# Altium footprint library libreriaPcb.PcbLib: 683 footprints (part 8 of 44)
Each footprint in its own frame and in the unit in brackets; x right, y up, seen from the top. Pads: shape width x height; smd on the part's side, far side on the other; paste and mask are expansions set on the pad; w line width, h text height; cw(c..) or ccw(c..) is an arc to the next point about the centre after c.
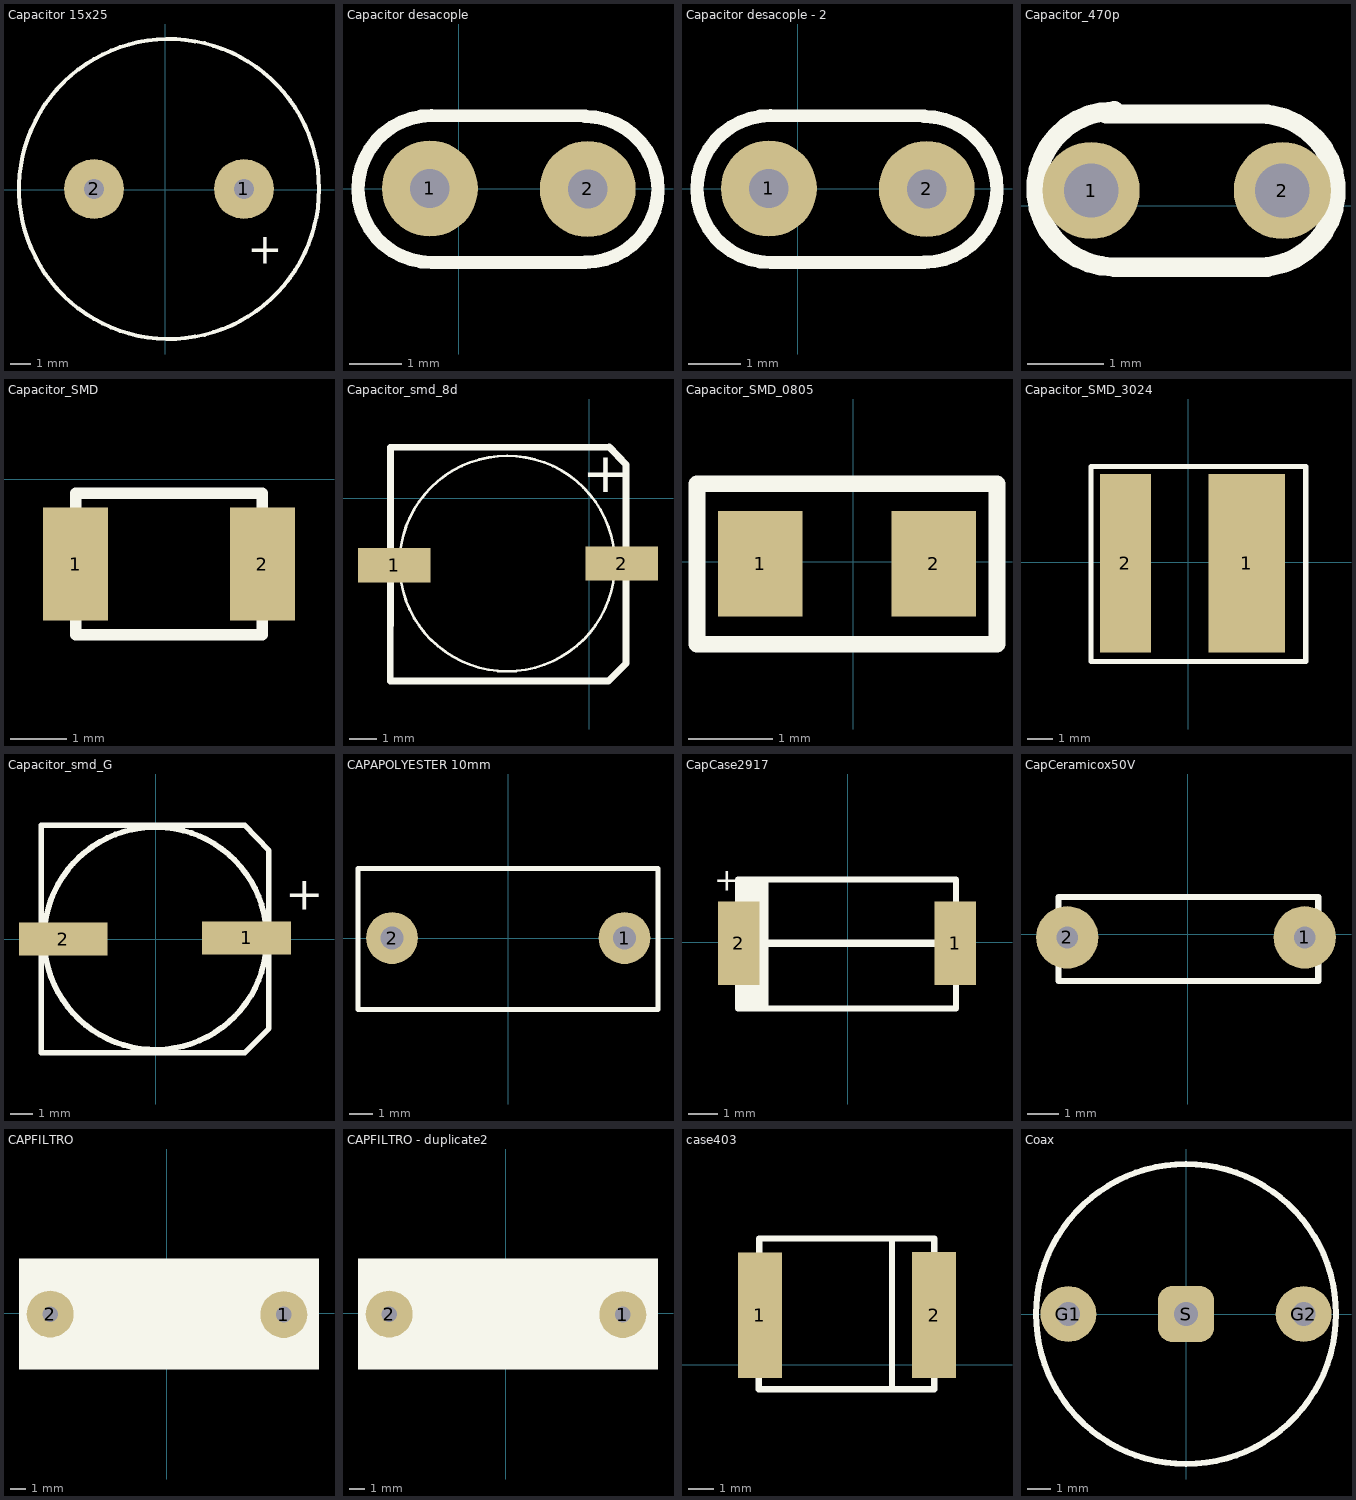
[diagram p7: the footprints below, top view; thin cyan lines are the x and y axes]

## Capacitor 15x25 [mm]
pads (2):
  round 3 hole 1: 1(3.944,0.033) 2(-3.556,0.033)
Top Overlay:
  circle w0.2: c0.194,0.033 r7.5
  text "+" at 5.874,-2.387 h1.52
3D body: height 25, standoff 0, extent -7.306,-7.452 7.635,7.518

## Capacitor desacople [mm]
pads (2):
  round 1.829 hole 0.75: 1(-0.55,0.01) 2(2.46,0)
Top Overlay:
  lines w0.254: 2.41,1.383 cw(c2.41,-0.007) 2.41,-1.397 -0.52,-1.4 cw(c-0.52,0) -0.52,1.4 2.41,1.393

## Capacitor desacople - 2 [mm]
pads (2):
  round 1.829 hole 0.75: 1(-0.55,0.01) 2(2.46,0)
Top Overlay:
  lines w0.254: 2.41,1.383 cw(c2.41,-0.007) 2.41,-1.397 -0.52,-1.4 cw(c-0.52,0) -0.52,1.4 2.41,1.393
3D body: height 5.6, standoff 0, extent -1.826,-0.71 3.774,0.79

## Capacitor_470p [mm]
pads (2):
  round 1.27 hole 0.711: 1(5.3,0.2) 2(7.8,0.2)
Top Overlay:
  lines w0.254: 5.5,1.2 7.6,1.2 ; 5.6,1.24 ccw(c5.6,0.22) 5.6,-0.8 7.6,-0.8 ; 7.5,-0.8 ccw(c7.5,0.2) 7.5,1.2

## Capacitor_SMD [mm]
pads (2):
  rect 1.15x2 smd: 1(-5.05,-1.5) 2(-1.75,-1.5)
Top Overlay:
  lines w0.2: -5.05,-2.75 -5.05,-1.5 -5.05,-0.25 -1.75,-0.25 -1.75,-2.75 -5.05,-2.75
3D body: height 1, standoff 0, extent -2.12,-2.32 -1.82,-0.72
3D body: height 1, standoff 0, extent -5.02,-2.32 -4.72,-0.72
3D body: height 1, standoff 0, extent -4.72,-2.32 -2.12,-0.72

## Capacitor_smd_8d [mm]
pads (2):
  rect 2.7x1.27 smd: 1(-7.23,-2.49) 2(1.21,-2.43)
Top Overlay:
  circle w0.1: c-3.04,-2.43 r4
  lines w0.254: -7.38,-6.79 0.72,-6.79 1.37,-6.14 1.37,1.25 0.75,1.9 -7.37,1.89 -7.37,-2.73 -7.38,-6.79
  text "+" at -0.25,0.22 h1.52
3D body: height 10, standoff 1, extent -7.039,-6.429 0.959,1.569
3D body: height 1, standoff 0, extent -7.381,-6.791 1.371,1.901

## Capacitor_SMD_0805 [mm]
pads (2):
  rect 1x1.25 smd: 1(-1.1,-0.02) 2(0.95,-0.02)
Top Overlay:
  lines w0.2: -1.85,-0.975 -1.85,0.925 1.7,0.925 1.7,-0.975 -1.85,-0.975
3D body: height 1, standoff 0, extent 0.65,-0.7 0.95,0.6
3D body: height 1, standoff 0, extent -1.1,-0.65 -0.8,0.6
3D body: height 1, standoff 0, extent -0.8,-0.65 0.65,0.6

## Capacitor_SMD_3024 [mm]
pads (2):
  rect 3x7 smd: 1(2.287,-0.05)
  rect 2x7 smd: 2(-2.475,-0.05)
Top Overlay:
  lines w0.2: -3.825,-3.9 4.6,-3.9 4.6,3.75 -3.825,3.75 -3.825,-3.9
3D body: height 1, standoff 0, extent -1.825,-3.05 1.5,2.95
3D body: height 1, standoff 0, extent -3.125,-3.05 -1.825,2.95
3D body: height 1, standoff 0, extent 1.5,-3.05 3.075,2.95

## Capacitor_smd_G [mm]
pads (2):
  rect 4x1.5 smd: 1(4.1,0.05) 2(-4.175,0)
Top Overlay:
  circle w0.254: c-0.012,0.032 r5.028
  lines w0.254: -5.173,-5.143 4.013,-5.143 5.113,-4.043 5.113,3.989 4.012,5.143 -5.163,5.132 ; -5.162,-5.143 -5.162,5.132 ; -0.034,5.122 -0.012,5.145 ; 3.927,5.132 -5.163,5.132
  text "+" at 5.85,1.325 h1.52
3D body: height 11, standoff 1, extent -5.025,-4.999 4.975,4.999
3D body: height 1, standoff 0, extent -5.162,-5.143 5.113,5.143

## CAPAPOLYESTER 10mm [mm]
pads (2):
  round 2.25 hole 1: 1(5.05,0) 2(-5.05,0)
Top Overlay:
  lines w0.2: -6.528,-3.099 6.502,-3.099 6.502,3.023 -6.528,3.023 -6.528,-3.099
3D body: height 8, standoff 0, extent -6.579,-3.099 6.579,3.023

## CapCase2917 [mm]
pads (2):
  rect 1.4x2.8 smd: 1(3.6,-0.025) 2(-3.65,-0.025)
Top Overlay:
  rectangle: -3.675,-2.25 -2.65,2.113
  lines w0.2: -3.675,-2.212 3.625,-2.212 3.625,2.113 -3.675,2.113 -3.675,0.863 -3.675,-2.212
  lines w0.254: -3.65,-0.025 3.6,-0.025
  text "+" at -4.475,1.725 h0.75
3D body: height 4, standoff 0, extent -3.675,-2.212 3.625,2.113
3D body: height 1, standoff 0, extent -3.8,-1.45 -3.5,1.4
3D body: height 1, standoff 0, extent 3.45,-1.45 3.75,1.4
3D body: height 4.1, standoff 0, extent -3.6,-2.2 -2.55,2.125

## CapCeramicox50V [mm]
pads (2):
  round 2 hole 0.7: 1(3.759,-0.102) 2(-3.861,-0.102)
Top Overlay:
  lines w0.2: -4.14,-1.499 4.191,-1.499 4.191,1.194 -4.14,1.194 -4.14,-1.499
3D body: height 11, standoff 3, extent -4,-1.372 4,1.128
3D body: height 4, standoff 0, extent 3.409,-0.451 4.109,0.248
3D body: height 4, standoff 0, extent -4.211,-0.451 -3.511,0.248

## CAPFILTRO [mm]
pads (2):
  round 3 hole 1: 1(7.48,-0.07) 2(-7.47,-0.04)
Top Overlay:
  rectangle: -9.46,-3.58 9.73,3.51

## CAPFILTRO - duplicate2 [mm]
pads (2):
  round 3 hole 1: 1(7.48,-0.07) 2(-7.47,-0.04)
Top Overlay:
  rectangle: -9.46,-3.58 9.73,3.51
3D body: height 15, standoff 0, extent -9.46,-3.58 9.73,3.51

## case403 [mm]
pads (2):
  rect 1.75x5 smd: 1(-17.1,1.97) 2(-10.18,1.98)
Top Overlay:
  lines w0.2: -17.14,-0.97 -17.14,1.97 -17.13,5.02
  lines w0.254: -15.13,-0.96 -15.12,-0.97 ; -11.85,-0.98 -11.85,5 ; -10.19,3.69 -10.18,3.68 ; -17.14,-0.97 -17.13,5.02 -10.18,5.02 -10.18,-0.97 -17.14,-0.97
3D body: height 2, standoff 0, extent -17.141,-0.981 -10.179,5.021

## Coax [mil]
pads (3):
  round 95 hole 40 paste+0: G1(-200,0) G2(200,0)
  rrect50% 95x95 hole 40 paste+0: S(0,0)
Top Overlay:
  circle w10: c0,0 r255